# Altium schematic symbol library RC.SchLib: 4 symbols
Pins are listed as number, name and electrical type; pins without a type are passive.

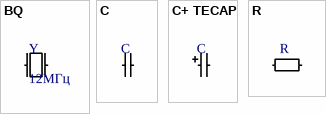
[diagram p0: symbols BQ to R]

## BQ
designator Y, comment 12МГц
footprint HC-49SM (Chip BQ)
pins: 1, 2

## C
designator C  (value not drawn)
footprint 0603 (Chip Resistor, 2-Leads, Body 1,63x0,93mm, IPC Medium Density)
pins: 1, 2

## C+ TECAP
designator C  (value not drawn)
TECAP EIA 6032–28
footprint EIA_6032–28 (Chip Capacitor, 2-Leads, Body 6,00x3,00mm, IPC Medium Density)
pins: 1, 2

## R
designator R  (value not drawn)
footprint 0603 (Chip Resistor, 2-Leads, Body 1,63x0,93mm, IPC Medium Density)
pins: 1, 2